# Altium schematic symbol library 02_Semiconductor.SchLib: 20 symbols
Pins are listed as number, name and electrical type; pins without a type are passive.

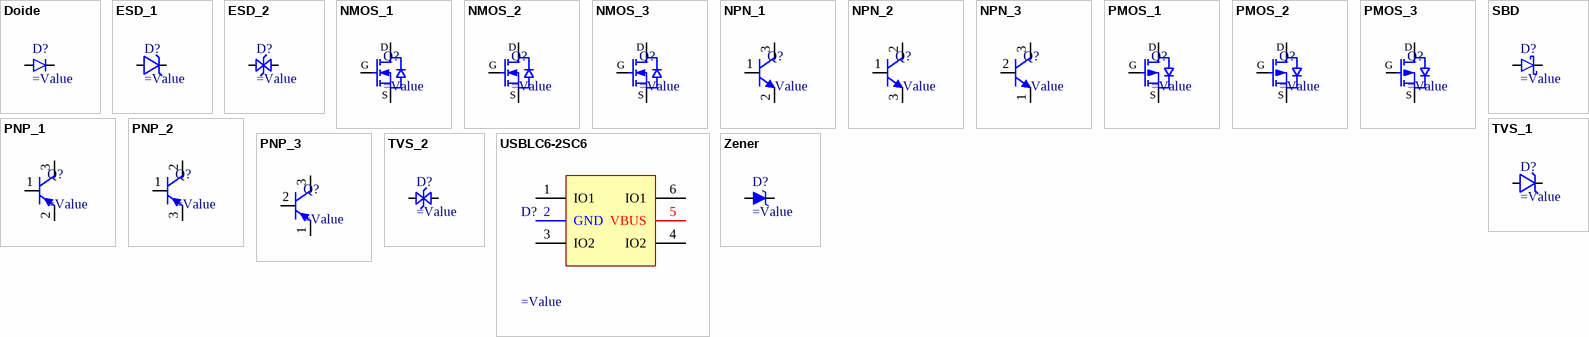
[diagram p0: symbols Doide to Zener]

## Doide
designator D?
标准二极管
pins: 1 K, 2 A

## ESD_1
designator D?
单向静电放电保护二极管
pins: 1 K, 2 A

## ESD_2
designator D?
双向静电放电保护二极管
pins: 1 A, 1 K

## NMOS_1
designator Q?
N沟道场效应管-1G2D3S
pins: 1 G, 2 D, 3 S

## NMOS_2
designator Q?
N沟道场效应管-1G2S3D
pins: 1 G, 2 S, 3 D

## NMOS_3
designator Q?
N沟道场效应管-9pin-123S/4G/56789D
pins: 1 S, 2 S, 3 S, 4 G, 5 D, 6 D, 7 D, 8 D, 9 D

## NPN_1
designator Q?
NPN型三极管-1B2E3C
pins: 1 B, 2 E, 3 C

## NPN_2
designator Q?
NPN型三极管-1B2C3E
pins: 1 B, 2 C, 3 E

## NPN_3
designator Q?
NPN型三极管-1E2B3C
pins: 1 E, 2 B, 3 C

## PMOS_1
designator Q?
P沟道场效应管-1G2D3S
pins: 1 G, 2 D, 3 S

## PMOS_2
designator Q?
P沟道场效应管-1G2S3D
pins: 1 G, 2 S, 3 D

## PMOS_3
designator Q?
P沟道场效应管-9pin-123S/4G/56789D
pins: 1 S, 2 S, 3 S, 4 G, 5 D, 6 D, 7 D, 8 D, 9 D

## PNP_1
designator Q?
PNP型三极管-1B2E3C
pins: 1 B, 2 E, 3 C

## PNP_2
designator Q?
PNP型三极管-1B2C3E
pins: 1 B, 2 C, 3 E

## PNP_3
designator Q?
PNP型三极管-1E2B3C
pins: 1 E, 2 B, 3 C

## SBD
designator D?
肖特基/快恢复二极管
pins: 1 K, 2 A

## TVS_1
designator D?
单向瞬态电压抑制二极管
pins: 1 K, 2 A

## TVS_2
designator D?
双向瞬态电压抑制二极管
pins: 1 A, 1 K

## USBLC6-2SC6
designator D?
瞬态电压抑制二极管阵列
pins: 1 IO1, 2 GND, 3 IO2, 4 IO2, 5 VBUS, 6 IO1

## Zener
designator D?
稳压(齐纳)二极管
pins: 1 K, 2 A